# Altium schematic symbol library TR_NPN_DARLINGTON.SchLib: 1 symbol
Pins are listed as number, name and electrical type; pins without a type are passive.

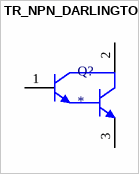
[diagram p0: symbol TR_NPN_DARLINGTON]

## TR_NPN_DARLINGTON
designator Q?
pins: 1 C, 2 B, 3 E